# Altium footprint library SLF12565.PcbLib: 1 footprints
Each footprint in its own frame and in the unit in brackets; x right, y up, seen from the top. Pads: shape width x height; smd on the part's side, far side on the other; paste and mask are expansions set on the pad; w line width, h text height; cw(c..) or ccw(c..) is an arc to the next point about the centre after c.
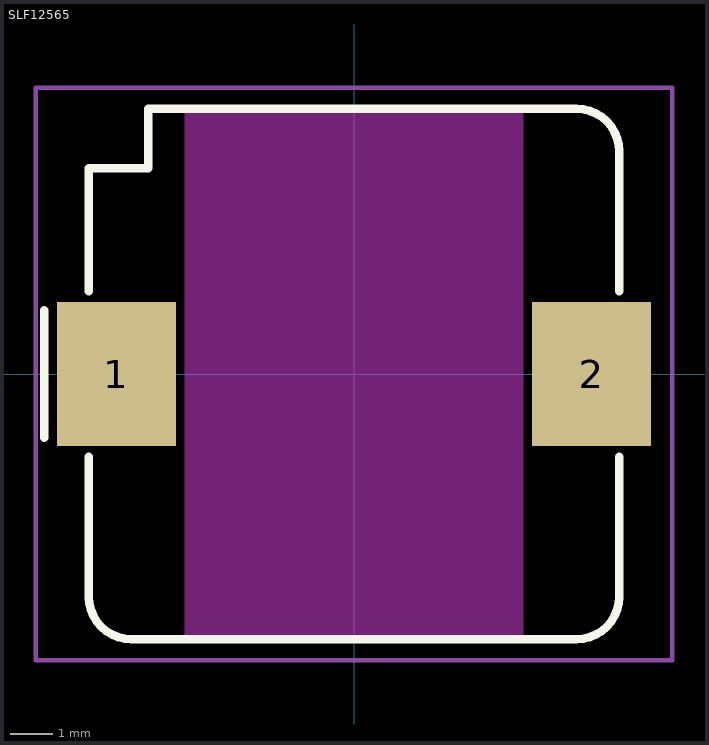
[diagram p0: the footprint, top view; thin cyan lines are the x and y axes]

## SLF12565 [mm]
pads (2):
  rect 2.8x3.4 smd: 1(-5.6,0) 2(5.6,0)
Top Layer keep-out:
  rectangle: -4,-6.25 4,6.25
Top Overlay:
  lines w0.2: -7.3,-1.5 -7.3,1.5 ; -6.25,-1.95 -6.25,-5.25 ccw(c-5.25,-5.25) -5.25,-6.25 5.25,-6.25 ccw(c5.25,-5.25) 6.25,-5.25 6.25,-1.95 ; -6.25,1.95 -6.25,4.85 -4.85,4.85 -4.85,6.25 5.25,6.25 cw(c5.25,5.25) 6.25,5.25 6.25,1.95
Top Courtyard:
  lines w0.1: -7.5,-6.75 -5.25,-6.75 7.5,-6.75 7.5,6.75 -7.5,6.75 -7.5,-6.75
3D body "User Library-SLF12565.step": height 6.66, standoff 0, extent -6.25,-6.25 6.25,6.25